# EAGLE library part LED_RBG_2 (library 2000dB)
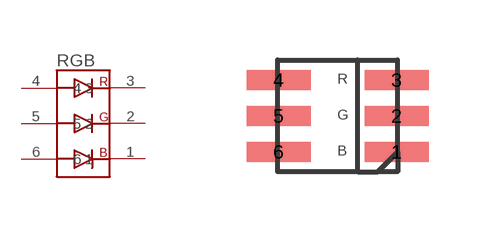
[diagram p10: symbol with the pads of PLCC-6; footprint PLCC-6]

Designator prefix RGB

## LED_RBG_2  [PLCC-6]
1  1
2  2
3  3
4  4
5  5
6  6

## Footprint PLCC-6 (pad centres in mm)
smd 1.6 x 0.5: 1 1.475,-0.9; 2 1.475,0; 3 1.475,0.9; 4 -1.475,0.9; 5 -1.475,0; 6 -1.475,-0.9